# Altium footprint library Inductors.PcbLib: 50 footprints (part 2 of 4)
Each footprint in its own frame and in the unit in brackets; x right, y up, seen from the top. Pads: shape width x height; smd on the part's side, far side on the other; paste and mask are expansions set on the pad; w line width, h text height; cw(c..) or ccw(c..) is an arc to the next point about the centre after c.
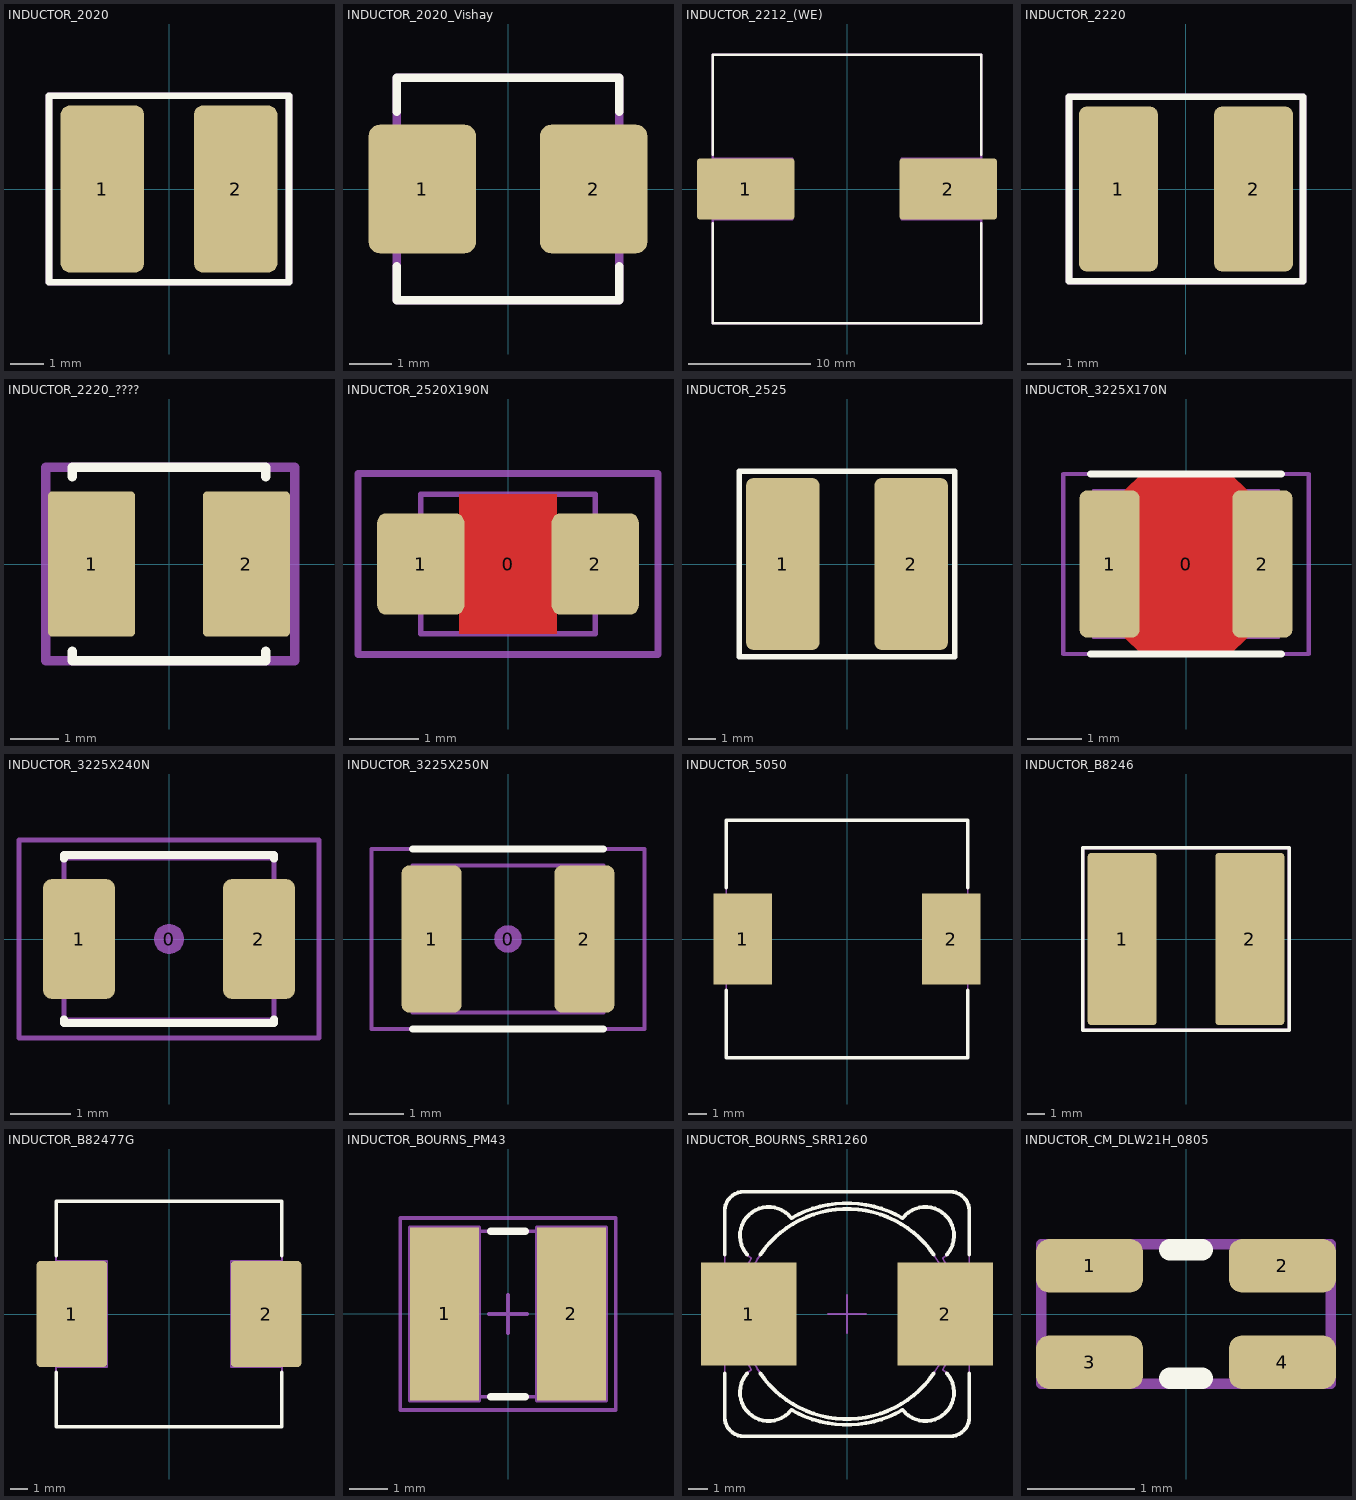
[diagram p1: the footprints below, top view; thin cyan lines are the x and y axes]

## INDUCTOR_2020 [mm]
pads (2):
  rrect20% 2.5x5 smd: 1(-2,0) 2(2,0)
Top Overlay:
  lines w0.2: -3.6,-2.8 2.5,-2.8 3.6,-2.8 3.6,2.8 -3.6,2.8 -3.6,-2.8
Mechanical 8:
  lines w0.2: -3.6,-2.8 -3.6,2.8 3.6,2.8 3.6,-2.8 2.5,-2.8 -3.6,-2.8
  text ".Designator" at -2.9,-0.8 h3
3D body: height 2, standoff 0.01, extent -2.5,-2.5 2.5,2.5

## INDUCTOR_2020_Vishay [mm]
pads (2):
  rrect20% 2.5x3 smd: 1(-2,0) 2(2,0)
Top Overlay:
  lines w0.2: -2.6,-1.8 -2.6,-2.6 2.6,-2.6 2.6,-1.8 ; -2.6,1.8 -2.6,2.6 2.6,2.6 2.6,1.8
Mechanical 8:
  lines w0.2: -2.6,-2.6 2.6,-2.6 2.6,2.6 -2.6,2.6 -2.6,-2.6
  text ".Designator" at -2.15,-0.5 h2
3D body: height 3, standoff 0.01, extent -2.5,-2.5 2.5,2.5

## INDUCTOR_2212_(WE) [mm]
pads (2):
  rrect10% 8x5 smd: 1(-8.3,0) 2(8.3,0)
Top Overlay:
  lines w0.2: -11,-2.8 -11,-11 11,-11 11,-2.8 ; -11,2.8 -11,11 11,11 11,2.8
Mechanical 8:
  lines w0.2: -11,-2.5 -4.5,-2.5 -4.5,2.5 -11,2.5 ; 11,-2.5 4.5,-2.5 4.5,2.5 11,2.5 ; -11,-11 11,-11 11,11 -11,11 -11,-11
  text ".Designator" at -4.95,-0.85 h4
3D body: height 12, standoff 0.01, extent -11,-11 11,11

## INDUCTOR_2220 [mm]
pads (2):
  rrect20% 2.4x5 smd: 1(-2.05,0) 2(2.05,0)
Top Overlay:
  lines w0.2: -3.55,-2.8 3.55,-2.8 3.55,2.8 -3.55,2.8 -3.55,0 -3.55,-2.8
Mechanical 8:
  lines w0.2: -3.55,-2.8 -3.55,0 -3.55,2.8 3.55,2.8 3.55,-2.8 -3.55,-2.8
  text ".Designator" at -1,-0.85 h2.5
3D body: height 5, standoff 0.01, extent -2.8,-2.5 2.8,2.5

## INDUCTOR_2220_???? [mm]
pads (2):
  rrect10% 1.8x3 smd: 1(-1.6,0) 2(1.6,0)
Top Overlay:
  lines w0.2: -2,-1.8 -2,-2 2,-2 2,-1.8 ; -2,1.8 -2,2 2,2 2,1.8
Mechanical 8:
  lines w0.2: -2.55,-2 -2.55,2 2.6,2 2.6,-2 -2.55,-2
  text ".Designator" at -2.25,-0.7 h2.2
3D body: height 1.65, standoff 0.01, extent -2,-2 2,2

## INDUCTOR_2520X190N [mm] "Inductor, molded body 2.5x2.0mm"
height 1.9
pads (3):
  round 0.508 on Mech15: 0(0,0)
  rrect20% 1.25x1.45 smd: 1(-1.25,0) 2(1.25,0)
Top Layer:
  pour cut-out: -0.7,1 0.7,1 0.7,-1 -0.7,-1
Mechanical 13:
  lines w0.076: -1.25,-1 -1.25,1 1.25,1 1.25,-1 -1.25,-1
Mechanical 15:
  lines w0.1: -2.15,-1.3 -2.15,1.3 2.15,1.3 2.15,-1.3 -2.15,-1.3
3D body "INDM2520X190N.STEP": height 1.79, standoff -0.01, extent -1.25,-1 1.25,1

## INDUCTOR_2525 [mm]
pads (2):
  rrect20% 2.7x6.3 smd: 1(-2.35,0) 2(2.35,0)
Top Overlay:
  lines w0.2: -3.95,-3.4 3.95,-3.4 3.95,3.4 -3.95,3.4 -3.95,-3.4
Mechanical 8:
  lines w0.1: -3.95,-3.4 3.95,-3.4 3.95,3.4 -3.95,3.4 -3.95,-3.4
  text ".Designator" at -3.35,-0.8 h3
3D body: height 2.8, standoff 0.01, extent -2.85,-2.85 2.85,2.85

## INDUCTOR_3225X170N [mm] "Chip Inductor, 2-Leads, Body 3.2x2.5mm, IPC Medium Density"
height 1.7
pads (3):
  round 0.508 on Mech15: 0(0,0)
  rrect25% 1.1x2.7 smd: 1(-1.4,0) 2(1.4,0)
Top Layer:
  pour cut-out: -1.125,1.35 -0.825,1.65 0.825,1.65 1.125,1.35 1.125,-1.35 0.825,-1.65 -0.825,-1.65 -1.125,-1.35
Top Overlay:
  lines w0.127: -1.75,-1.651 1.75,-1.651 ; -1.75,1.651 1.75,1.651
Mechanical 13:
  lines w0.05: -1.7,-1.35 -1.7,1.35 1.7,1.35 1.7,-1.35 -1.7,-1.35
Mechanical 15:
  lines w0.076: -2.25,-1.65 2.25,-1.65 2.25,1.65 -2.25,1.65 -2.25,-1.65
3D body "INDC3225X170N.STEP": height 1.7, standoff 0, extent -1.71,-1.36 1.71,1.36

## INDUCTOR_3225X240N [mm] "Molded Inductor, 2-Leads, Body 3.2x2.5mm, IPC Medium Density"
height 2.4
pads (3):
  round 0.508 on Mech15: 0(0,0)
  rrect25% 1.2x2 smd: 1(-1.5,0) 2(1.5,0)
Top Overlay:
  lines w0.127: -1.75,-1.338 -1.75,-1.4 1.75,-1.4 1.75,-1.338 ; -1.75,1.338 -1.75,1.4 1.75,1.4 1.75,1.338
Mechanical 13:
  lines w0.076: -1.75,-1.35 -1.75,1.35 1.75,1.35 1.75,-1.35 -1.75,-1.35
Mechanical 15:
  lines w0.076: -2.5,-1.65 -2.5,1.65 2.5,1.65 2.5,-1.65 -2.5,-1.65
3D body "INDM3225X240N.STEP": height 2.4, standoff 0, extent -1.79,-1.35 1.79,1.35

## INDUCTOR_3225X250N [mm] "Chip Inductor, 2-Leads, Body 3.2x2.5mm, IPC Medium Density"
height 2.7
pads (3):
  round 0.508 on Mech15: 0(0,0)
  rrect25% 1.1x2.7 smd: 1(-1.4,0) 2(1.4,0)
Top Overlay:
  lines w0.127: -1.75,-1.651 1.75,-1.651 ; -1.75,1.651 1.75,1.651
Mechanical 13:
  lines w0.076: -1.75,-1.35 -1.75,1.35 1.75,1.35 1.75,-1.35 -1.75,-1.35
Mechanical 15:
  lines w0.076: -2.5,-1.65 -2.5,1.65 2.5,1.65 2.5,-1.65 -2.5,-1.65
3D body "INDC3225X250N.STEP": height 2.7, standoff 0, extent -1.7,-1.35 1.7,1.35

## INDUCTOR_5050 [mm]
pads (2):
  rect 3.2x5 smd: 1(-5.7,0) 2(5.7,0)
Top Overlay:
  lines w0.2: -6.6,-2.8 -6.6,-6.5 6.6,-6.5 6.6,-2.8 ; -6.6,2.8 -6.6,6.5 6.6,6.5 6.6,2.8
Mechanical 8:
  lines w0.1: -6.6,-6.5 -6.6,6.5 6.6,6.5 6.6,-6.5 -6.6,-6.5
  text ".Designator" at -5.3,-0.85 h3
3D body: height 3.5, standoff 0.01, extent -6.6,-6.5 6.6,6.5

## INDUCTOR_B8246 [mm]
pads (2):
  rrect10% 4x10 smd: 1(-3.7,0) 2(3.7,0)
Top Overlay:
  lines w0.2: -6,-5.3 -6,0.2 -6,5.3 6,5.3 6,-5.3 -6,-5.3
Mechanical 8:
  lines w0.2: -6,-5.3 6,-5.3 6,5.3 -6,5.3 -6,0.2 -6,-5.3
  text ".Designator" at -2.7,-0.65 h3
3D body: height 4.8, standoff 0.01, extent -5.2,-5.2 5.2,5.2

## INDUCTOR_B82477G [mm]
pads (2):
  rrect10% 4x6 smd: 1(-5.5,0) 2(5.5,0)
Top Overlay:
  lines w0.2: -6.4,-3.3 -6.4,-6.4 6.4,-6.4 6.4,-3.3 ; -6.4,3.3 -6.4,6.4 6.4,6.4 6.4,3.3
Mechanical 8:
  lines w0.1: -6.4,-3 -3.5,-3 -3.5,3 -6.4,3 ; 6.4,-3 3.5,-3 3.5,3 6.4,3 ; -6.4,-6.4 6.4,-6.4 6.4,6.4 -6.4,6.4 -6.4,-6.4
  text ".Designator" at 1,-5.85 h4
3D body "SRR1280.stp": height 7.5, standoff 0, extent -6.25,-6.25 6.25,6.25

## INDUCTOR_BOURNS_PM43 [mm] "SMD Inductor  Body Width 4.5mm Body Lenght 4mm Height 3.5mm"
height 3.5
pads (2):
  rect 1.8x4.5 smd: 1(-1.65,0) 2(1.65,0)
Top Overlay:
  lines w0.2: -0.45,-2.15 0.45,-2.15 ; -0.45,2.15 0.45,2.15
Mechanical 8:
  lines w0.1: -2.15,0 -1.65,0 ; -1.65,-0.5 -1.65,0 ; -1.65,0.5 -1.65,0 ; -1.15,0 -1.65,0 ; -0.5,0 0,0 ; 0,-0.5 0,0 ; 0,0.5 0,0 ; 0.5,0 0,0 ; 1.15,0 1.65,0 ; 1.65,-0.5 1.65,0 ; 1.65,0.5 1.65,0 ; 2.15,0 1.65,0 ; -2.55,-2.25 -0.75,-2.25 -0.75,2.25 -2.55,2.25 -2.55,-2.25 ; 0.75,-2.25 2.55,-2.25 2.55,2.25 0.75,2.25 0.75,-2.25
Mechanical 14:
  lines w0.1: -0.75,-2.15 -0.75,2.15 ; 0.75,-2.15 0.75,2.15 ; -2.381,-0.3 ccw(c0,0) -1.067,-2.15 1.067,-2.15 ccw(c0,0) 2.381,-0.3 2.1,-0.3 cw(c2.1,0) 2.1,0.3 2.381,0.3 ccw(c0,0) 1.067,2.15 -1.067,2.15 ccw(c0,0) -2.381,0.3 -2.1,0.3 cw(c-2.1,0) -2.1,-0.3 -2.381,-0.3
Mechanical 15:
  lines w0.1: -2.8,-2.5 -2.8,2.5 2.8,2.5 2.8,-2.5 -2.8,-2.5
3D body "IND_BOURNS_PM43.stp": height 3.5, standoff 0, extent -2.381,-2.15 2.381,2.15

## INDUCTOR_BOURNS_SRR1260 [mm] "SMD Inductor  Body Width 12.5mm Body Lenght 12.5mm Height 6.5mm"
height 6.5
pads (2):
  rect 5x5.4 smd: 1(-5.15,0) 2(5.15,0)
Top Overlay:
  lines w0.2: -6.4,-3.1 -6.4,-5.4 ccw(c-5.4,-5.4) -5.4,-6.4 5.4,-6.4 ccw(c5.4,-5.4) 6.4,-5.4 6.4,-3.1 ; -6.4,3.1 -6.4,5.4 cw(c-5.4,5.4) -5.4,6.4 5.4,6.4 cw(c5.4,5.4) 6.4,5.4 6.4,3.1 ; -5.218,-3.1 ccw(c-4.101,-4.101) -2.912,-5.016 ccw(c0,0) 2.912,-5.016 ccw(c4.101,-4.101) 5.218,-3.1 ; -5.218,3.1 cw(c-4.101,4.101) -2.912,5.016 cw(c0,0) 2.912,5.016 cw(c4.101,4.101) 5.218,3.1 ; -4.543,-3.1 ccw(c0,0) 4.543,-3.1 ; -4.543,3.1 cw(c0,0) 4.543,3.1
Mechanical 8:
  lines w0.1: -5.85,0 -4.85,0 ; -4.85,-1 -4.85,0 ; -4.85,1 -4.85,0 ; -3.85,0 -4.85,0 ; -1,0 0,0 ; 0,-1 0,0 ; 0,1 0,0 ; 1,0 0,0 ; 3.85,0 4.85,0 ; 4.85,-1 4.85,0 ; 4.85,1 4.85,0 ; 5.85,0 4.85,0
Mechanical 14:
  circle w0.1: c0,0 r5.5
  lines w0.1: -6.4,-5.4 ccw(c-5.4,-5.4) -5.4,-6.4 5.4,-6.4 ccw(c5.4,-5.4) 6.4,-5.4 6.4,5.4 ccw(c5.4,5.4) 5.4,6.4 -5.4,6.4 ccw(c-5.4,5.4) -6.4,5.4 -6.4,-5.4 ; -5.016,-2.912 ccw(c-4.101,-4.101) -2.912,-5.016 ccw(c0,0) 2.912,-5.016 ccw(c4.101,-4.101) 5.016,-2.912 ccw(c0,0) 5.016,2.912 ccw(c4.101,4.101) 2.912,5.016 ccw(c0,0) -2.912,5.016 ccw(c-4.101,4.101) -5.016,2.912 ccw(c0,0) -5.016,-2.912
3D body "IND_BOURNS_SRR1260.stp": height 6.5, standoff 0, extent -6.4,-6.4 6.4,6.4

## INDUCTOR_CM_DLW21H_0805 [mm]
pads (4):
  rrect50% 1x0.5 smd: 1(-0.9,0.45) 2(0.9,0.45) 3(-0.9,-0.45) 4(0.9,-0.45)
Top Overlay:
  lines w0.2: -0.15,-0.6 0.15,-0.6 ; -0.15,0.6 0.15,0.6
Mechanical 8:
  lines w0.1: -1.35,-0.65 1.35,-0.65 1.35,0.65 -1.35,0.65 -1.35,-0.65
  text ".Designator" at -1.2,-0.4 h0.8
3D body: height 1, standoff 0, extent -1,-0.6 1,0.6